# Altium footprint library PULV5.PcbLib: 32 footprints (part 2 of 2)
Each footprint in its own frame and in the unit in brackets; x right, y up, seen from the top. Pads: shape width x height; smd on the part's side, far side on the other; paste and mask are expansions set on the pad; w line width, h text height; cw(c..) or ccw(c..) is an arc to the next point about the centre after c.
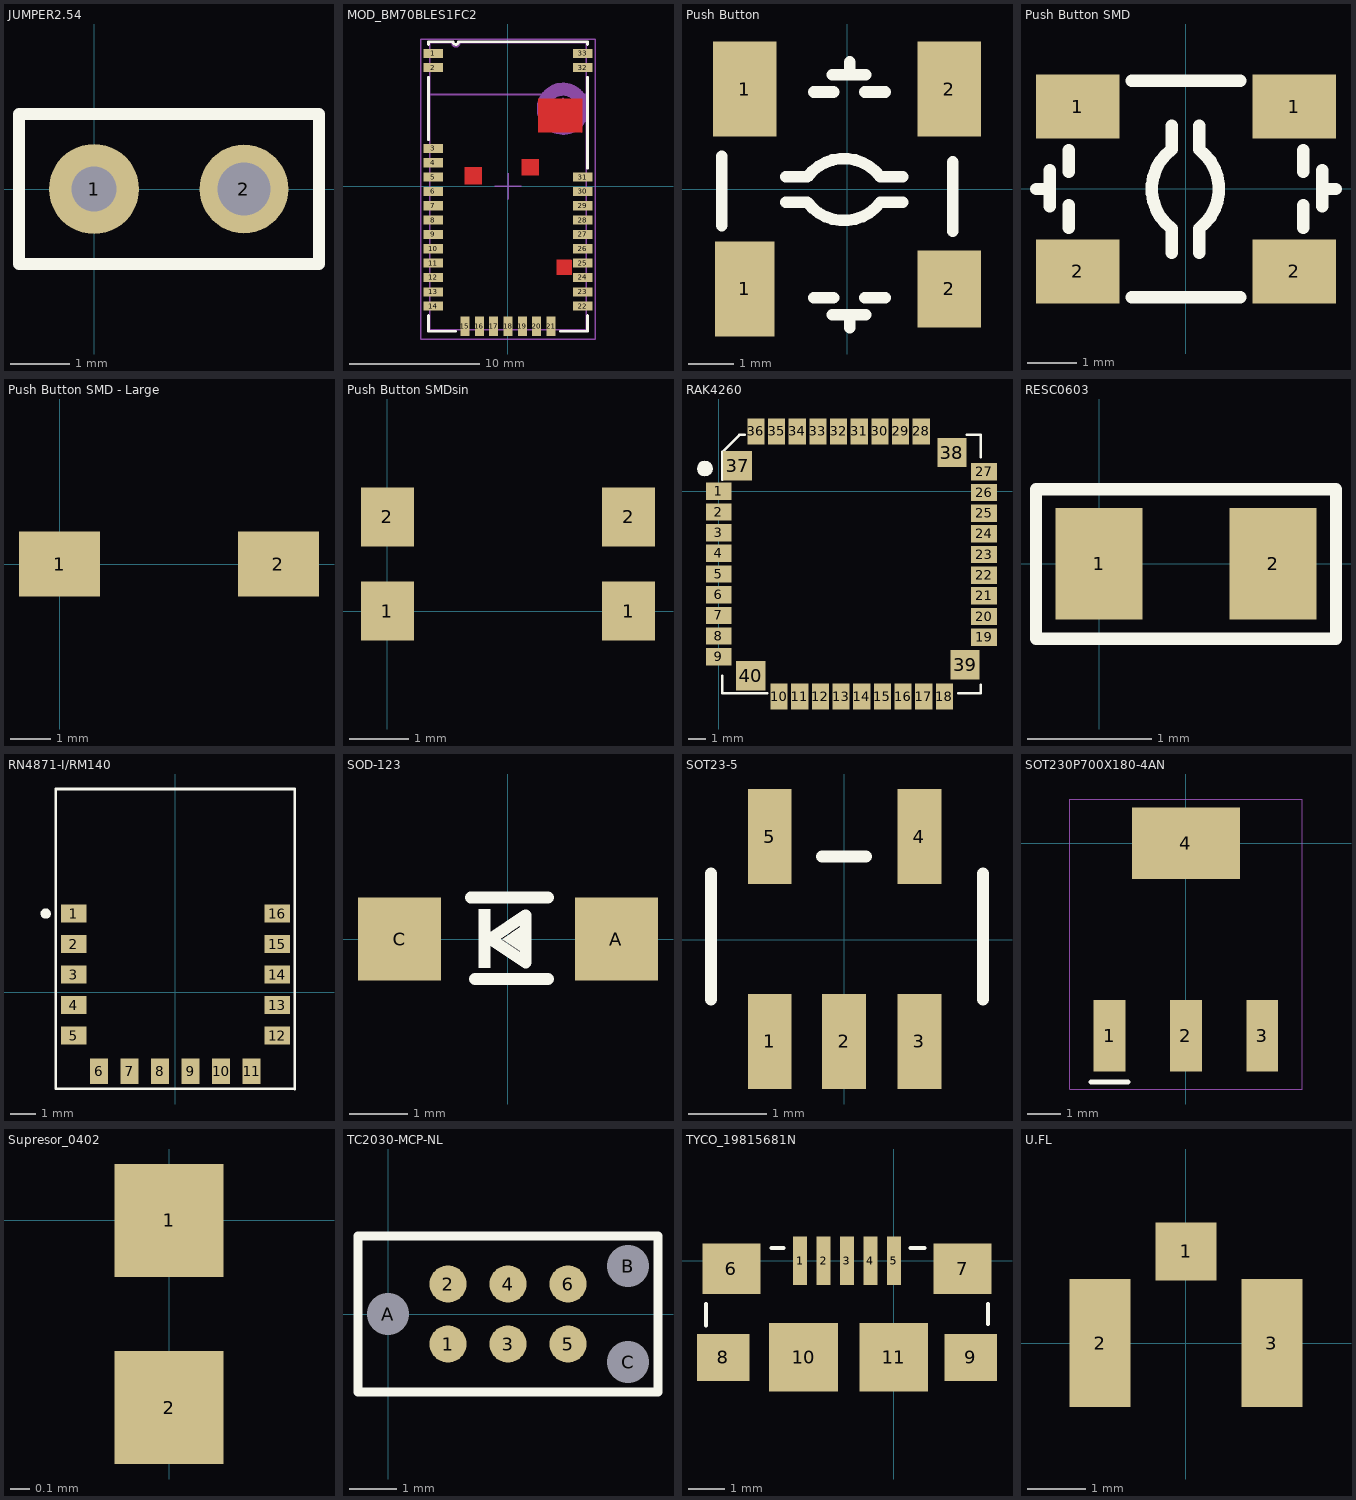
[diagram p1: the footprints below, top view; thin cyan lines are the x and y axes]

## JUMPER2.54 [mm]
pads (2):
  round 1.524 hole 0.762: 1(0,0)
  round 1.5 hole 0.9: 2(2.54,0)
Top Overlay:
  lines w0.2: -1.27,-1.27 -1.27,1.27 3.81,1.27 3.81,-1.27 -1.27,-1.27
3D body: height 4.74, standoff -3.66, extent -1.219,-1.27 3.861,1.27

## MOD_BM70BLES1FC2 [mm]
height 2.4
pads (33):
  rect 1.5x0.7 smd: 1(-5.742,10.2) 2(-5.742,9.1) 3(-5.75,2.9) 4(-5.75,1.8) 5(-5.75,0.7) 6(-5.75,-0.4) 7(-5.75,-1.5) 8(-5.75,-2.6) 9(-5.75,-3.7) 10(-5.75,-4.8) 11(-5.75,-5.9) 12(-5.75,-7) 13(-5.75,-8.1) 14(-5.75,-9.2) 22(5.75,-9.2) 23(5.75,-8.1) 24(5.75,-7) 25(5.75,-5.9) 26(5.75,-4.8) 27(5.75,-3.7) 28(5.75,-2.6) 29(5.75,-1.5) 30(5.75,-0.4) 31(5.75,0.7) 32(5.75,9.1) 33(5.75,10.2)
  rect 0.7x1.5 smd: 15(-3.3,-10.75) 16(-2.2,-10.75) 17(-1.1,-10.75) 18(0,-10.75) 19(1.1,-10.75) 20(2.2,-10.75) 21(3.3,-10.75)
Top Layer:
  pour cut-out: 2.337,6.706 2.337,4.14 5.639,4.14 5.664,4.115 5.69,4.14 5.69,6.706
  pour cut-out: 1.041,2.057 1.041,0.838 2.362,0.838 2.362,2.057
  pour cut-out: -3.327,1.448 -3.327,0.152 -2.007,0.152 -2.007,1.448
  pour cut-out: 3.734,-5.639 3.734,-6.782 4.877,-6.782 4.877,-5.664 4.851,-5.639
Top Overlay:
  lines w0.2: -6.1,-9.921 -6.1,-11.121 -4,-11.121 ; -6.1,3.579 -6.1,8.379 ; -6.1,10.879 -6.1,11.079 -4.2,11.079 ccw(c-4,11.079) -4,10.879 ccw(c-4,11.079) -3.8,11.079 6.1,11.079 6.1,10.879 ; 4,-11.121 6.1,-11.121 6.1,-9.921 ; 6.1,1.379 6.1,8.379
Mechanical 11:
  lines w0.127: -6,-11 6,-11 ; -6,-11 -6,11 -4.3,11 ccw(c-4,11) -3.7,11 6,11 6,-11 ; -6,-11 6,-11
  lines w0.152: -6,7.05 6,7.05 ; 3.41,5.95 4.21,5.95 ; 4.21,5.15 4.21,5.95 ; 4.21,6.75 4.21,5.95 ; 5.01,5.95 4.21,5.95
  lines w0.4: 4.359,6.083 ccw(c4.21,5.95) 4.378,6.058
  lines w1: 5.71,5.948 cw(c4.21,5.95) 5.71,5.948
Mechanical 15:
  lines w0.1: -1,0 1,0 ; 0,-1 0,1 ; -6.7,-11.721 -6.7,11.279 6.7,11.279 6.7,-11.721 -6.7,-11.721
3D body: height 2.4, standoff 0.6, extent -5.2,-10.3 5.2,6.3
3D body: height 1.8, standoff 0.6, extent -1.5,9.1 2,10.6
3D body: height 0.6, standoff 0, extent -6,-11 6,11

## Push Button [mm]
pads (4):
  rect 1.3x2.1 smd: 1(-2.25,-2.2)
  rect 1.4x2.1 smd: 1(-2.25,2.2) 2(2.25,2.2)
  rect 1.4x1.7 smd: 2(2.25,-2.2)
Top Overlay:
  lines w0.254: -2.758,-0.803 -2.758,0.721 ; -1.352,-0.291 -0.871,-0.291 ccw(c-0.068,0.305) 0.735,-0.291 1.227,-0.291 ; -1.352,0.266 -0.871,0.266 cw(c-0.068,-0.33) 0.735,0.266 1.227,0.266 ; -0.729,-2.388 -0.297,-2.388 ; -0.729,2.134 -0.297,2.134 ; -0.322,-2.769 0.414,-2.769 ; -0.322,2.515 0.414,2.515 ; 0.059,-3.048 0.059,-2.769 ; 0.059,2.515 0.059,2.794 ; 0.389,-2.388 0.846,-2.388 ; 0.389,2.134 0.846,2.134 ; 2.322,-0.93 2.322,0.594

## Push Button SMD [mm]
pads (4):
  rect 1.7x1.3 smd: 1(-2.2,1.674) 1(2.2,1.674) 2(-2.2,-1.674) 2(2.2,-1.674)
Top Overlay:
  lines w0.254: -3.048,0 -2.769,0 ; -2.769,-0.356 -2.769,0.381 ; -2.388,-0.787 -2.388,-0.33 ; -2.388,0.356 -2.388,0.787 ; -1.1,-2.2 1.1,-2.2 ; -1.1,2.2 1.1,2.2 ; -0.291,-1.295 -0.291,-0.803 cw(c0.305,0) -0.291,0.803 -0.291,1.284 ; 0.266,-1.295 0.266,-0.803 ccw(c-0.33,0) 0.266,0.803 0.266,1.284 ; 2.388,-0.787 2.388,-0.33 ; 2.388,0.356 2.388,0.787 ; 2.769,-0.356 2.769,0.381 ; 2.769,0 3.048,0
3D body: height 0.55, standoff 0, extent -1.748,-1.755 1.752,1.744
3D body: height 0.5, standoff 0, extent -2.245,-2.26 2.25,2.25

## Push Button SMD - Large [mm]
pads (2):
  rect 2x1.6 smd: 1(0,0) 2(5.4,0)
3D body: height 5, standoff 0, extent -0.806,-1.725 6.394,1.775

## Push Button SMDsin [mm]
pads (4):
  rect 0.9x1 smd: 1(0,0) 1(4.1,0) 2(0,1.6) 2(4.1,1.6)
3D body: height 1.92, standoff -0.02, extent -0.2,-0.6 4.4,2.2

## RAK4260 [mm]
pads (40):
  rect 1.5x1 smd mask+0.05: 1(0,0) 2(0,-1.2) 3(0,-2.4) 4(0,-3.6) 5(0,-4.8) 6(0,-6) 7(0,-7.2) 8(0,-8.4) 9(0,-9.6) 19(15.4,-8.467) 20(15.4,-7.267) 21(15.4,-6.067) 22(15.4,-4.867) 23(15.4,-3.667) 24(15.4,-2.467) 25(15.4,-1.267) 26(15.4,-0.067) 27(15.4,1.133)
  rect 1x1.5 smd mask+0.05: 10(3.5,-11.918) 11(4.7,-11.918) 12(5.9,-11.918) 13(7.1,-11.918) 14(8.3,-11.918) 15(9.5,-11.918) 16(10.7,-11.918) 17(11.9,-11.918) 18(13.1,-11.918) 28(11.755,3.482) 29(10.555,3.482) 30(9.355,3.482) 31(8.155,3.482) 32(6.955,3.482) 33(5.755,3.482) 34(4.555,3.482) 35(3.355,3.482) 36(2.155,3.482)
  rect 1.702x1.702 smd mask+0.05: 37(1.089,1.49) 38(13.535,2.252) 39(14.297,-10.067) 40(1.851,-10.702)
Top Overlay:
  region: -0.811,0.869 -0.637,0.904 -0.489,1.003 -0.39,1.151 -0.355,1.325 -0.39,1.499 -0.489,1.647 -0.637,1.746 -0.811,1.781 -0.985,1.746 -1.133,1.647 -1.232,1.499 -1.267,1.325 -1.232,1.151 -1.133,1.003 -0.985,0.904
  lines w0.15: 0.2,-10.718 0.2,-11.718 2.8,-11.718 ; 0.2,0.682 0.2,2.282 1.2,3.282 1.5,3.282 ; 13.9,-11.718 15.2,-11.718 15.2,-11.218 ; 14.4,3.282 15.2,3.282 15.2,1.982
3D body: height 1.58, standoff -0.02, extent 0.247,-11.596 15.247,3.404

## RESC0603 [mm]
pads (2):
  rect 0.7x0.9 smd: 1(0,0) 2(1.4,0)
Top Overlay:
  lines w0.1: -0.508,-0.602 1.905,-0.602 1.905,0.598 -0.508,0.598 -0.508,-0.602
3D body: height 0.56, standoff 0, extent -0.16,-0.4 1.54,0.4

## RN4871-I/RM140 [mm]
pads (16):
  rect 1x0.7 smd: 1(-3.999,3.1) 2(-3.999,1.9) 3(-3.999,0.7) 4(-3.999,-0.5) 5(-3.999,-1.7) 12(3.999,-1.7) 13(3.999,-0.5) 14(3.999,0.7) 15(3.999,1.9) 16(3.999,3.1)
  rect 0.7x1 smd: 6(-3.001,-3.1) 7(-1.801,-3.1) 8(-0.601,-3.1) 9(0.599,-3.1) 10(1.799,-3.1) 11(2.999,-3.1)
Top Overlay:
  lines w0.1: -4.708,-3.792 4.699,-3.801 4.699,8 -4.699,8 -4.708,-3.792
  lines w0.203: -5.005,3.127 ccw(c-5.101,3.1) -5.001,3.1
3D body: height 2.1, standoff 0, extent -4.501,-3.6 4.499,7.9

## SOD-123 [mil]
pads (2):
  rect 56x56 smd: A(73,0) C(-72.83,0)
Top Overlay:
  rectangle: -19.6,-19.66 -11.73,20.03
  region: -3.94,0 8,8 8,-7.87
  lines w8: -25,28 27,28 ; -22,-27 27,-27 ; -11.81,0 12,16 12,-15.75 -11.81,0
3D body: height 50, standoff 0, extent -73.83,-31.5 71.84,31.5

## SOT23-5 [mil]
pads (5):
  rect 22x48 smd: 1(-37.4,-51.18) 2(0,-51.18) 3(38,-51.18) 4(38,52) 5(-37.4,52)
Top Overlay:
  lines w6: -67,-30 -67,33.5 ; -11,42 11,42 ; 70,-30 70,33.5
Mechanical 16:
  rectangle: -47.27,34.06 -27.59,60.06
  rectangle: 28,34 48,60
  rectangle: 28,-59.06 48,-33.46
  rectangle: -9.84,-59.05 10,-33.47
  rectangle: -47.24,-59.06 -27.56,-33.46
3D body: height 41.65, standoff -1.65, extent -59.05,-50.21 59.06,48.22

## SOT230P700X180-4AN [mm]
pads (4):
  rect 0.95x2.15 smd: 1(-2.3,-5.8) 2(0,-5.8) 3(2.3,-5.8)
  rect 3.25x2.15 smd: 4(0,0)
Top Overlay:
  lines w0.15: -2.863,-7.19 -1.748,-7.19
Mechanical 16:
  lines w0.025: -3.5,-7.399 -3.5,1.324 3.5,1.324 3.5,-7.399 -3.5,-7.399
3D body: height 1.65, standoff -0.05, extent -3.345,-6.383 3.355,0.917

## Supresor_0402 [mm]
pads (2):
  rect 0.56x0.58 smd: 1(0,0) 2(0,-0.96)
3D body: height 0.34, standoff -0.02, extent -0.25,-0.957 0.25,0.043

## TC2030-MCP-NL [mil]
pads (9):
  round 31 smd: 1(50,-25) 2(50,25) 3(100,-25) 4(100,25) 5(150,-25) 6(150,25)
  round 34 hole 35 unplated: A(0,0) B(200,40) C(200,-40)
Top Overlay:
  lines w7.87: -25,-65 -25,65 225,65 225,-65 -25,-65

## TYCO_19815681N [mm]
pads (11):
  rect 0.4x1.35 smd: 1(-2.6,0) 2(-1.95,0) 3(-1.3,0) 4(-0.65,0) 5(0,0)
  rect 1.6x1.4 smd: 6(-4.5,-0.225) 7(1.9,-0.225)
  rect 1.45x1.3 smd: 8(-4.725,-2.675) 9(2.125,-2.675)
  rect 1.9x1.9 smd: 10(-2.503,-2.675) 11(-0.003,-2.675)
Top Overlay:
  lines w0.1: -5.2,-1.8 -5.2,-1.2 ; -3.4,0.35 -3.05,0.35 ; 0.45,0.35 0.85,0.35 ; 2.6,-1.75 2.6,-1.2
3D body: height -0.18, standoff -3.12, extent -5.284,-5.177 2.696,0.253

## U.FL [mm]
pads (3):
  rect 1.05x1 smd: 1(0,1.575)
  rect 1.05x2.2 smd: 2(-1.475,0) 3(1.475,0)
3D body: height 1.25, standoff 0, extent -1.675,-1.55 1.725,1.55